# Altium schematic symbol library 19-237A R6GHBHC-B01 2T.SchLib: 1 symbol
Pins are listed as number, name and electrical type; pins without a type are passive.

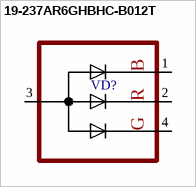
[diagram p0: symbol 19-237AR6GHBHC-B012T]

## 19-237AR6GHBHC-B012T
designator VD?
pins: 1, 2, 3, 4
text: B; R; G